# Altium footprint library DXPpcb.PCBLIB: 575 footprints (part 5 of 36)
Each footprint in its own frame and in the unit in brackets; x right, y up, seen from the top. Pads: shape width x height; smd on the part's side, far side on the other; paste and mask are expansions set on the pad; w line width, h text height; cw(c..) or ccw(c..) is an arc to the next point about the centre after c.
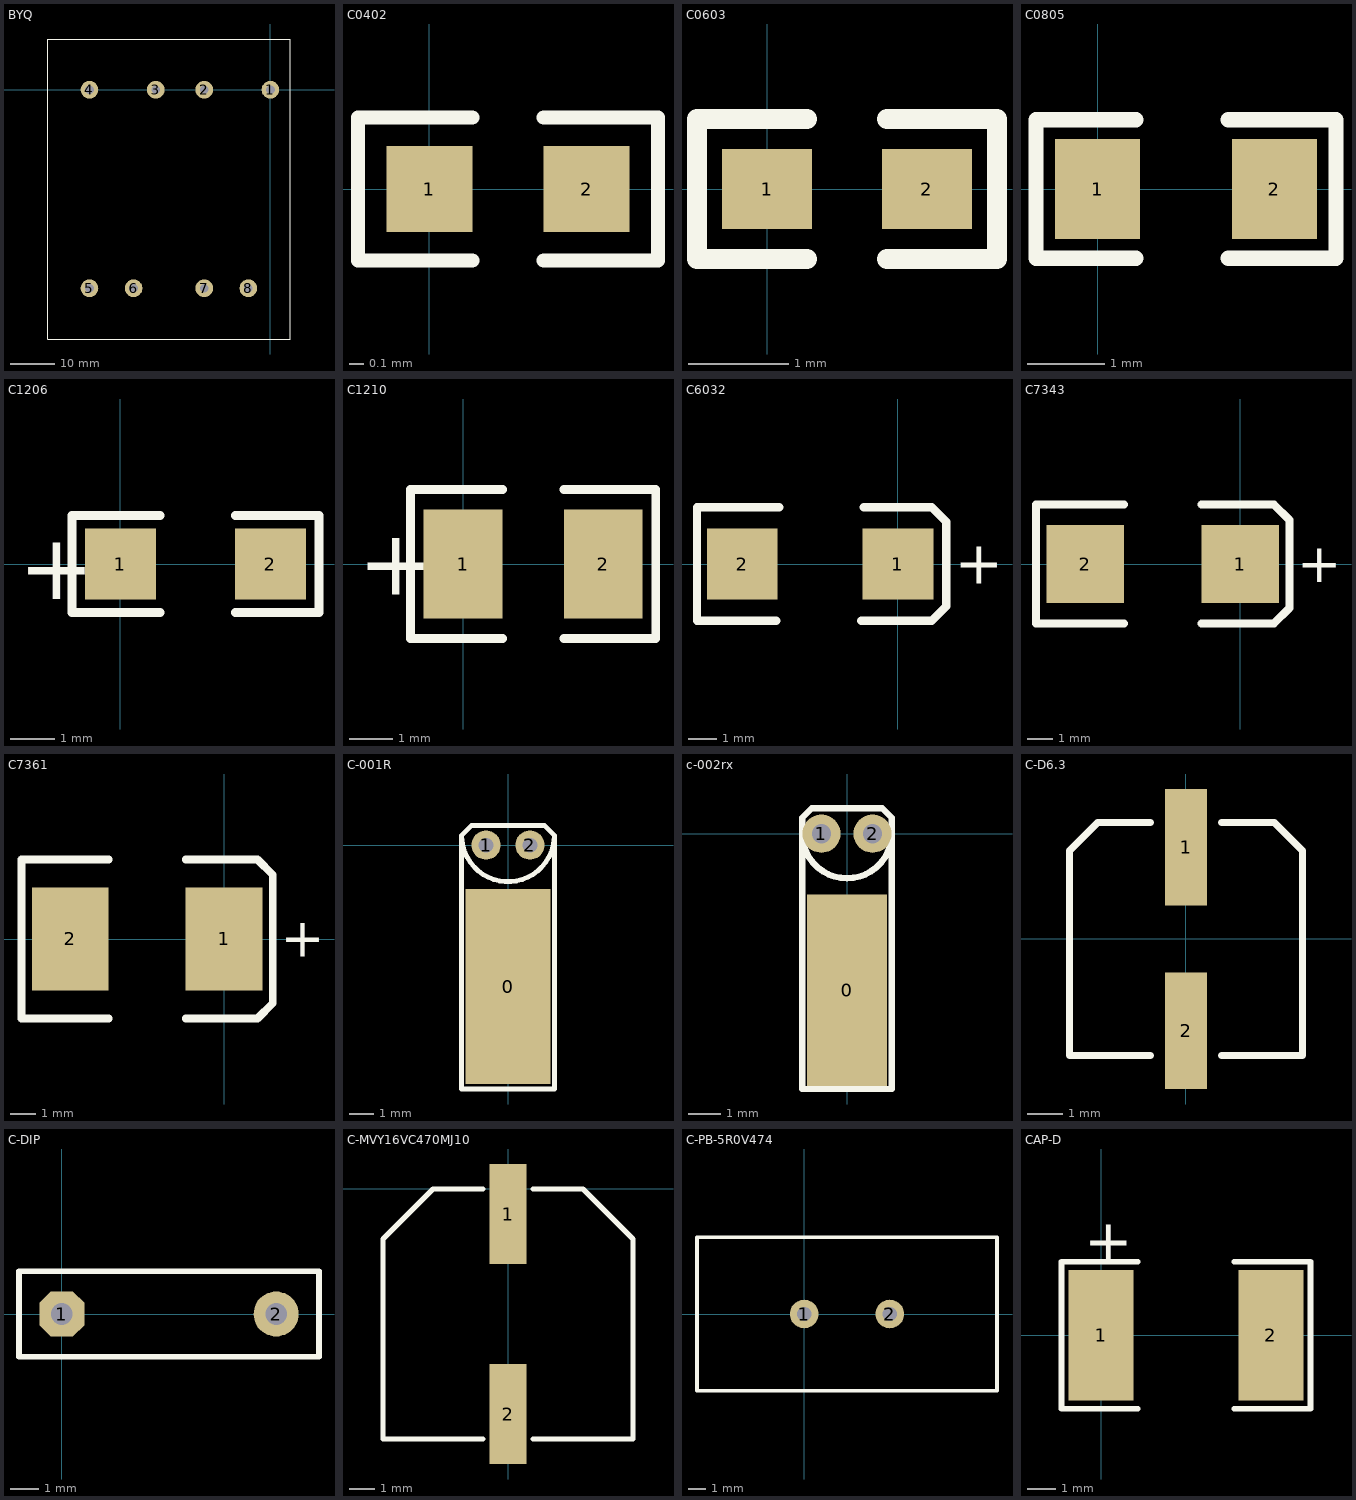
[diagram p4: the footprints below, top view; thin cyan lines are the x and y axes]

## BYQ [mm]
pads (8):
  round 4 hole 2: 1(0,0) 2(-14.986,0) 3(-25.984,0) 4(-40.996,0) 5(-40.996,-44.983) 6(-30.988,-44.983) 7(-14.986,-44.983) 8(-5.004,-44.983)
TopOverlay:
  lines w0.254: -50.47,-56.49 -50.47,-56.439 -50.47,11.506 4.521,11.506 4.521,-56.49 -50.47,-56.49

## C0402 [mm]
pads (2):
  rect 0.6x0.6 smd: 1(0,0) 2(1.1,0)
TopOverlay:
  lines w0.1: 0.3,-0.5 -0.5,-0.5 -0.5,0.5 0.3,0.5 ; 0.8,-0.5 1.6,-0.5 1.6,0.5 0.8,0.5

## C0603 [mm]
pads (2):
  rect 0.9x0.8 smd: 1(0,0) 2(1.6,0)
TopOverlay:
  lines w0.2: 0.4,-0.7 -0.7,-0.7 -0.7,0.7 0.4,0.7 ; 1.2,-0.7 2.3,-0.7 2.3,0.7 1.2,0.7

## C0805 [mm]
pads (2):
  rect 1.1x1.3 smd: 1(0,0) 2(2.3,0)
TopOverlay:
  lines w0.2: 0.5,-0.9 -0.8,-0.9 -0.8,0.9 0.5,0.9 ; 1.7,-0.9 3.1,-0.9 3.1,0.9 1.7,0.9

## C1206 [mm]
pads (2):
  rect 1.6x1.6 smd: 1(0,0) 2(3.4,0)
TopOverlay:
  lines w0.2: 0.9,-1.1 -1.1,-1.1 -1.1,1.1 0.9,1.1 ; 2.6,-1.1 4.5,-1.1 4.5,1.1 2.6,1.1
  text "+" at -2.3,-0.8 h1.5

## C1210 [mm]
pads (2):
  rect 1.8x2.5 smd: 1(0,0) 2(3.2,0)
TopOverlay:
  lines w0.2: 0.9,-1.7 -1.2,-1.7 -1.2,1.7 0.9,1.7 ; 2.3,-1.7 4.4,-1.7 4.4,1.7 2.3,1.7
  text "+" at -2.4,-0.7 h1.5

## C6032 [mm]
pads (2):
  rect 2.5x2.5 smd: 1(0,0) 2(-5.5,0)
TopOverlay:
  lines w0.3: -4.3,-2 -7.1,-2 -7.1,2 -4.2,2 ; -1.3,-2 1.2,-2 1.7,-1.5 1.7,1.5 1.2,2 -1.2,2
  text "+" at 2,-0.7 h1.5

## C7343 [mm]
pads (2):
  rect 3x3 smd: 1(0,0) 2(-6,0)
TopOverlay:
  lines w0.3: -4.5,-2.3 -7.9,-2.3 -7.9,2.3 -4.5,2.3 ; -1.5,-2.3 1.3,-2.3 1.9,-1.7 1.9,1.7 1.3,2.3 -1.5,2.3
  text "+" at 2.2,-0.7 h1.5

## C7361 [mm]
pads (2):
  rect 3x4 smd: 1(-0.001,0.011) 2(-6.001,0.011)
TopOverlay:
  lines w0.3: -4.501,-3.089 -7.901,-3.089 -7.901,3.111 -4.501,3.111 ; -1.501,-3.089 1.299,-3.089 1.899,-2.489 1.899,2.511 1.299,3.111 -1.501,3.111
  text "+" at 2.199,-0.689 h1.5

## C-001R [mm]
pads (3):
  rect 3.5x8 smd: 0(0,-5.8)
  round 1.2 hole 0.6: 1(-0.9,0) 2(0.9,0)
TopOverlay:
  lines w0.2: -1.9,0.4 ccw(c0,0.4) 1.9,0.4 ; -1.9,0.4 -1.5,0.8 1.5,0.8 1.9,0.4 ; -1.9,0.4 -1.9,-10 1.9,-10 1.9,0.4

## c-002rx [mm]
pads (3):
  rect 2.5x6 smd: 0(0,-4.9)
  round 1.2 hole 0.6: 1(-0.8,0) 2(0.8,0)
TopOverlay:
  lines w0.2: -1.4,0 ccw(c0,0) 1.4,0 ; -1.4,-8 1.4,-8 1.4,0.5 1.1,0.8 -1.1,0.8 -1.4,0.5 -1.4,-8

## C-D6.3 [mm]
pads (2):
  rect 1.2x3.3 smd: 1(0.011,2.59) 2(0.011,-2.61)
TopOverlay:
  lines w0.2: -0.989,-3.31 -3.289,-3.31 -3.289,2.49 -2.489,3.29 -0.989,3.29 ; 1.011,-3.31 3.311,-3.31 3.311,2.49 2.511,3.29 1.011,3.29

## C-DIP [mil]
pads (2):
  oct 62x62 hole 30: 1(0,0)
  round 62 hole 30: 2(295.28,0)
TopOverlay:
  lines w7.87: -59.06,-59.06 -59.06,59.06 354.33,59.06 354.33,-59.06 -59.06,-59.06

## C-MVY16VC470MJ10 [mm]
pads (2):
  rect 1.5x4 smd: 1(0,-1) 2(0,-9)
TopOverlay:
  lines w0.2: -1,-10 -5,-10 -5,-2 -3,0 -1,0 ; 1,-10 5,-10 5,-2 3,0 1,0

## C-PB-5R0V474 [mm]
pads (2):
  round 1.6 hole 0.8: 1(0,0) 2(4.8,0)
TopOverlay:
  lines w0.2: -6,-4.3 -6,4.3 10.8,4.3 10.8,-4.3 -6,-4.3

## CAP-D [mm]
pads (2):
  rect 2.3x4.6 smd: 1(0,0) 2(6,0)
TopOverlay:
  lines w0.2: 1.3,-2.6 -1.4,-2.6 -1.4,2.6 1.3,2.6 ; 4.7,-2.6 7.4,-2.6 7.4,2.6 4.7,2.6
  text "+" at -0.6,2.6 h1.5